# Altium footprint library SCHURTER_4787.2000.PcbLib: 1 footprints
Each footprint in its own frame and in the unit in brackets; x right, y up, seen from the top. Pads: shape width x height; smd on the part's side, far side on the other; paste and mask are expansions set on the pad; w line width, h text height; cw(c..) or ccw(c..) is an arc to the next point about the centre after c.
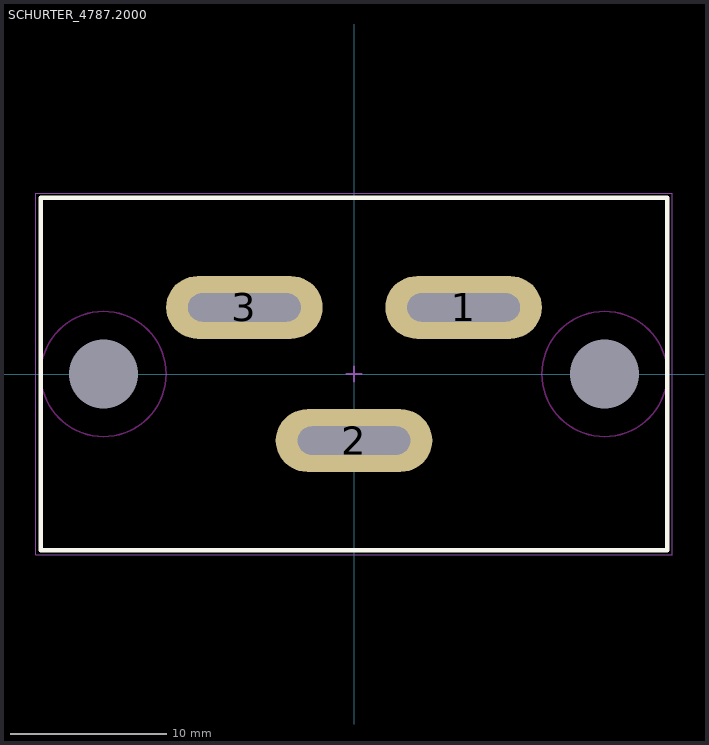
[diagram p0: the footprint, top view; thin cyan lines are the x and y axes]

## SCHURTER_4787.2000 [mm] "SCHURTER_4787.2000"
height 11.54
pads (5):
  oval 10x4 hole 1.8 slot 7.2 at 0 deg: 1(7,4.25) 2(0,-4.25) 3(-7,4.25)
  round 0 hole 4.4 unplated mask+0.05: ""(-16,0) ""(16,0)
Top Overlay:
  lines w0.3: -20,-11.25 -20,11.25 20,11.25 20,-11.25 -20,-11.25
Keep-Out Layer:
  circle w0.1: c16,0 r4
  circle w0.1: c-16,0 r4
Mechanical 13:
  lines w0.1: -20,-11.25 -20,11.25 20,11.25 20,-11.25 -20,-11.25
Mechanical 15:
  lines w0.05: -20.32,-11.557 -20.32,11.557 20.32,11.557 20.32,-11.557 -20.32,-11.557
  lines w0.1: -0.5,0 0.5,0 ; 0,-0.5 0,0.5
3D body "SCHURTER_4787.2000.step": height 24.7, standoff -8.1, extent -20,-11 20,11